# EAGLE library part LHSPIN (library USER)
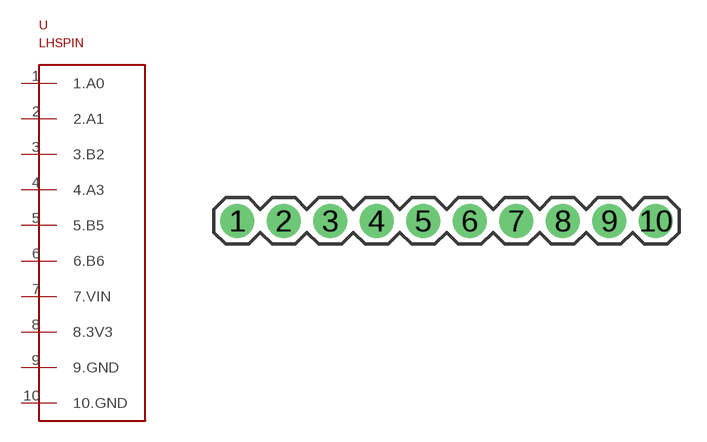
[diagram p11: symbol with the pads of LHSPIN; footprint LHSPIN]

Designator prefix -

## LHSPIN  [LHSPIN]
1  1.A0
2  2.A1
3  3.B2
4  4.A3
5  5.B5
6  6.B6
7  7.VIN
8  8.3V3
9  9.GND
10  10.GND

## Footprint LHSPIN (pad centres in mm)
drill 1.016 pad 1.88: 1 -11.43,0; 2 -8.89,0; 3 -6.35,0; 4 -3.81,0; 5 -1.27,0; 6 1.27,0; 7 3.81,0; 8 6.35,0; 9 8.89,0; 10 11.43,0